# Altium footprint library Voltage_Regulator.PcbLib: 1 footprints
Each footprint in its own frame and in the unit in brackets; x right, y up, seen from the top. Pads: shape width x height; smd on the part's side, far side on the other; paste and mask are expansions set on the pad; w line width, h text height; cw(c..) or ccw(c..) is an arc to the next point about the centre after c.
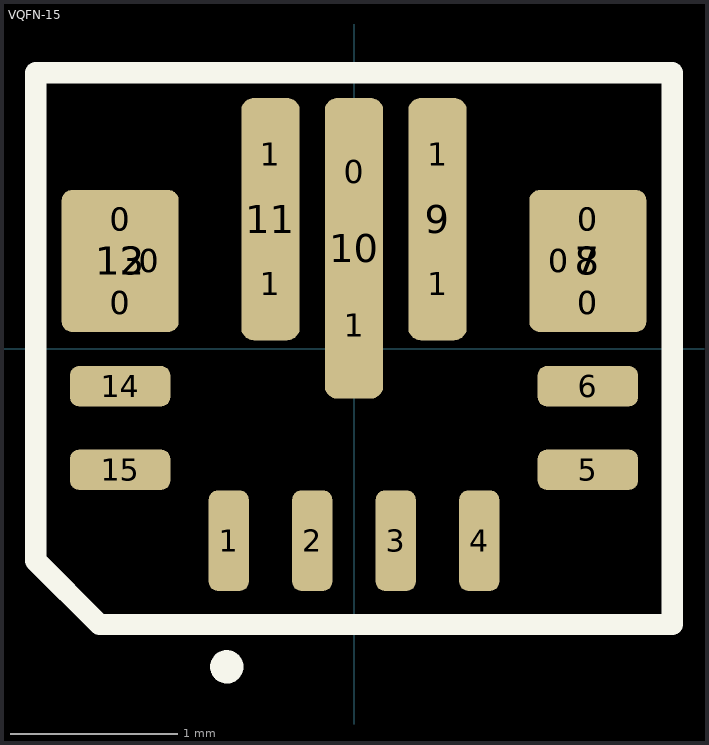
[diagram p0: the footprint, top view; thin cyan lines are the x and y axes]

## VQFN-15 [mm]
pads (33):
  rrect50% 0.6x0.25 on Top Paste: 0(-1.4,0.275) 0(-1.4,0.775) 0(1.4,0.275) 0(1.4,0.775)
  rrect50% 0.6x0.25 on Top Solder: 0(-1.4,0.275) 0(-1.4,0.775) 0(1.4,0.275) 0(1.4,0.775)
  rrect50% 0.25x0.75 on Top Paste: 0(-1.225,0.525) 0(1.225,0.525)
  rrect50% 0.25x0.75 on Top Solder: 0(-1.225,0.525) 0(1.225,0.525)
  rrect50% 0.25x0.72 on Top Paste: 0(0,1.06) 1(0,0.14)
  rrect42% 0.24x0.6 smd: 1(-0.75,-1.15) 2(-0.25,-1.15) 3(0.25,-1.15) 4(0.75,-1.15)
  rrect50% 0.25x0.575 on Top Paste: 1(-0.5,0.388) 1(-0.5,1.163) 1(0.5,0.388) 1(0.5,1.163)
  rrect42% 0.6x0.24 smd: 5(1.4,-0.725) 6(1.4,-0.225) 14(-1.4,-0.225) 15(-1.4,-0.725)
  rrect17% 0.7x0.85 smd paste-0.35 mask-0.35: 7(1.4,0.525) 8(1.4,0.525) 12(-1.4,0.525) 13(-1.4,0.525)
  rrect42% 0.35x1.45 smd paste-0.18 mask-0.05: 9(0.5,0.775) 11(-0.5,0.775)
  rrect42% 0.35x1.8 smd paste-0.18 mask-0.05: 10(0,0.6)
Top Overlay:
  circle w0.1: c-0.762,-1.905 r0.05
  lines w0.127: -1.905,-1.27 -1.905,1.651 1.905,1.651 1.905,-1.651 -1.524,-1.651 -1.905,-1.27
3D body "RNM0015A.stp": height 1, standoff 0, extent -1.5,-1.25 1.5,1.25